# EAGLE library part SFH9240 (library jasons_stuff)
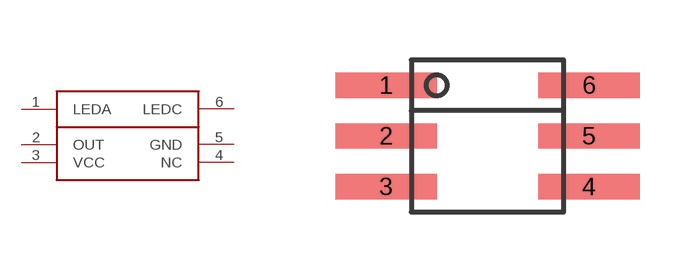
[diagram p48: symbol with the pads of SFH_SO06; footprint SFH_SO06]

Designator prefix -

## SFH9240  [SFH_SO06]
1  LEDA
2  OUT
3  VCC  pwr
4  NC  nc
5  GND  pwr
6  LEDC

## Footprint SFH_SO06 (pad centres in mm)
smd 2.54 x 0.635: 1 -2.54,0.635; 2 -2.54,-0.635; 3 -2.54,-1.905; 4 2.54,-1.905; 5 2.54,-0.635; 6 2.54,0.635